# Altium footprint library BGA50P.PcbLib: 2 footprints
Each footprint in its own frame and in the unit in brackets; x right, y up, seen from the top. Pads: shape width x height; smd on the part's side, far side on the other; paste and mask are expansions set on the pad; w line width, h text height; cw(c..) or ccw(c..) is an arc to the next point about the centre after c.
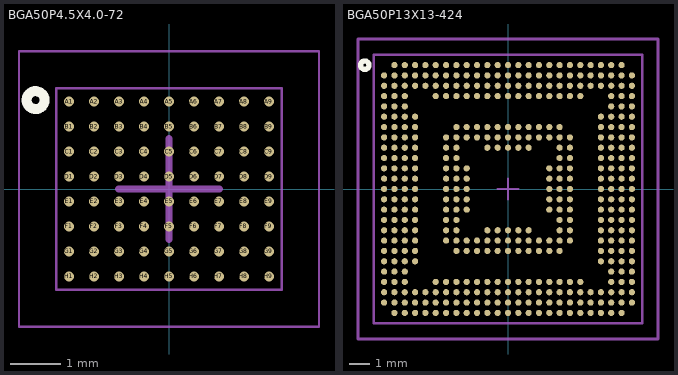
[diagram p0: the footprints below, top view; thin cyan lines are the x and y axes]

## BGA50P4.5X4.0-72 [mm]
pads (72):
  round 0.2 smd: A1(-2,1.75) A2(-1.5,1.75) A3(-1,1.75) A4(-0.5,1.75) A5(0,1.75) A6(0.5,1.75) A7(1,1.75) A8(1.5,1.75) A9(2,1.75) B1(-2,1.25) B2(-1.5,1.25) B3(-1,1.25) B4(-0.5,1.25) B5(0,1.25) B6(0.5,1.25) B7(1,1.25) B8(1.5,1.25) B9(2,1.25) C1(-2,0.75) C2(-1.5,0.75) C3(-1,0.75) C4(-0.5,0.75) C5(0,0.75) C6(0.5,0.75) C7(1,0.75) C8(1.5,0.75) C9(2,0.75) D1(-2,0.25) D2(-1.5,0.25) D3(-1,0.25) D4(-0.5,0.25) D5(0,0.25) D6(0.5,0.25) D7(1,0.25) D8(1.5,0.25) D9(2,0.25) E1(-2,-0.25) E2(-1.5,-0.25) E3(-1,-0.25) E4(-0.5,-0.25) E5(0,-0.25) E6(0.5,-0.25) E7(1,-0.25) E8(1.5,-0.25) E9(2,-0.25) F1(-2,-0.75) F2(-1.5,-0.75) F3(-1,-0.75) F4(-0.5,-0.75) F5(0,-0.75) F6(0.5,-0.75) F7(1,-0.75) F8(1.5,-0.75) F9(2,-0.75) G1(-2,-1.25) G2(-1.5,-1.25) G3(-1,-1.25) G4(-0.5,-1.25) G5(0,-1.25) G6(0.5,-1.25) G7(1,-1.25) G8(1.5,-1.25) G9(2,-1.25) H1(-2,-1.75) H2(-1.5,-1.75) H3(-1,-1.75) H4(-0.5,-1.75) H5(0,-1.75) H6(0.5,-1.75) H7(1,-1.75) H8(1.5,-1.75) H9(2,-1.75)
Top Overlay:
  circle w0.2: c-2.667,1.778 r0.18
Mechanical 13:
  lines w0.05: -2.255,-2.011 2.255,-2.011 2.255,2.011 -2.255,2.011 -2.255,-2.011
Mechanical 15:
  lines w0.05: -3,-2.75 3,-2.75 3,2.75 -3,2.75 -3,-2.75
  lines w0.15: -1,0 1,0 ; 0,-1 0,1
3D body: height 0.71, standoff 0.01, extent -2.255,-2.011 2.255,2.012

## BGA50P13X13-424 [mm]
height 2.05
pads (424):
  round 0.3 smd: A2(-5.5,6) A3(-5,6) A4(-4.5,6) A5(-4,6) A6(-3.5,6) A7(-3,6) A8(-2.5,6) A9(-2,6) A10(-1.5,6) A11(-1,6) A12(-0.5,6) A13(0,6) A14(0.5,6) A15(1,6) A16(1.5,6) A17(2,6) A18(2.5,6) A19(3,6) A20(3.5,6) A21(4,6) A22(4.5,6) A23(5,6) A24(5.5,6) AA1(-6,-4) AA2(-5.5,-4) AA3(-5,-4) AA23(5,-4) AA24(5.5,-4) AA25(6,-4) AB1(-6,-4.5) AB2(-5.5,-4.5) AB3(-5,-4.5) AB6(-3.5,-4.5) AB7(-3,-4.5) AB8(-2.5,-4.5) AB9(-2,-4.5) AB10(-1.5,-4.5) AB11(-1,-4.5) AB12(-0.5,-4.5) AB13(0,-4.5) AB14(0.5,-4.5) AB15(1,-4.5) AB16(1.5,-4.5) AB17(2,-4.5) AB18(2.5,-4.5) AB19(3,-4.5) AB20(3.5,-4.5) AB23(5,-4.5) AB24(5.5,-4.5) AB25(6,-4.5) AC1(-6,-5) AC2(-5.5,-5) AC3(-5,-5) AC4(-4.5,-5) AC5(-4,-5) AC6(-3.5,-5) AC7(-3,-5) AC8(-2.5,-5) AC9(-2,-5) AC10(-1.5,-5) AC11(-1,-5) AC12(-0.5,-5) AC13(0,-5) AC14(0.5,-5) AC15(1,-5) AC16(1.5,-5) AC17(2,-5) AC18(2.5,-5) AC19(3,-5) AC20(3.5,-5) AC21(4,-5) AC22(4.5,-5) AC23(5,-5) AC24(5.5,-5) AC25(6,-5) AD1(-6,-5.5) AD2(-5.5,-5.5) AD3(-5,-5.5) AD4(-4.5,-5.5) AD5(-4,-5.5) AD6(-3.5,-5.5) AD7(-3,-5.5) AD8(-2.5,-5.5) AD9(-2,-5.5) AD10(-1.5,-5.5) AD11(-1,-5.5) AD12(-0.5,-5.5) AD13(0,-5.5) AD14(0.5,-5.5) AD15(1,-5.5) AD16(1.5,-5.5) AD17(2,-5.5) AD18(2.5,-5.5) AD19(3,-5.5) AD20(3.5,-5.5) AD21(4,-5.5) AD22(4.5,-5.5) AD23(5,-5.5) AD24(5.5,-5.5) AD25(6,-5.5) AE2(-5.5,-6) AE3(-5,-6) AE4(-4.5,-6) AE5(-4,-6) AE6(-3.5,-6) AE7(-3,-6) AE8(-2.5,-6) AE9(-2,-6) AE10(-1.5,-6) AE11(-1,-6) AE12(-0.5,-6) AE13(0,-6) AE14(0.5,-6) AE15(1,-6) AE16(1.5,-6) AE17(2,-6) AE18(2.5,-6) AE19(3,-6) AE20(3.5,-6) AE21(4,-6) AE22(4.5,-6) AE23(5,-6) AE24(5.5,-6) B1(-6,5.5) B2(-5.5,5.5) B3(-5,5.5) B4(-4.5,5.5) B5(-4,5.5) B6(-3.5,5.5) B7(-3,5.5) B8(-2.5,5.5) B9(-2,5.5) B10(-1.5,5.5) B11(-1,5.5) B12(-0.5,5.5) B13(0,5.5) B14(0.5,5.5) B15(1,5.5) B16(1.5,5.5) B17(2,5.5) B18(2.5,5.5) B19(3,5.5) B20(3.5,5.5) B21(4,5.5) B22(4.5,5.5) B23(5,5.5) B24(5.5,5.5) B25(6,5.5) C1(-6,5) C2(-5.5,5) C3(-5,5) C4(-4.5,5) C5(-4,5) C6(-3.5,5) C7(-3,5) C8(-2.5,5) C9(-2,5) C10(-1.5,5) C11(-1,5) C12(-0.5,5) C13(0,5) C14(0.5,5) C15(1,5) C16(1.5,5) C17(2,5) C18(2.5,5) C19(3,5) C20(3.5,5) C21(4,5) C22(4.5,5) C23(5,5) C24(5.5,5) C25(6,5) D1(-6,4.5) D2(-5.5,4.5) D3(-5,4.5) D6(-3.5,4.5) D7(-3,4.5) D8(-2.5,4.5) D9(-2,4.5) D10(-1.5,4.5) D11(-1,4.5) D12(-0.5,4.5) D13(0,4.5) D14(0.5,4.5) D15(1,4.5) D16(1.5,4.5) D17(2,4.5) D18(2.5,4.5) D19(3,4.5) D20(3.5,4.5) D23(5,4.5) D24(5.5,4.5) D25(6,4.5) E1(-6,4) E2(-5.5,4) E3(-5,4) E23(5,4) E24(5.5,4) E25(6,4) F1(-6,3.5) F2(-5.5,3.5) F3(-5,3.5) F4(-4.5,3.5) F22(4.5,3.5) F23(5,3.5) F24(5.5,3.5) F25(6,3.5) G1(-6,3) G2(-5.5,3) G3(-5,3) G4(-4.5,3) G8(-2.5,3) G9(-2,3) G10(-1.5,3) G11(-1,3) G12(-0.5,3) G13(0,3) G14(0.5,3) G15(1,3) G16(1.5,3) G17(2,3) G18(2.5,3) G22(4.5,3) G23(5,3) G24(5.5,3) G25(6,3) H1(-6,2.5) H2(-5.5,2.5) H3(-5,2.5) H4(-4.5,2.5) H7(-3,2.5) H8(-2.5,2.5) H9(-2,2.5) H10(-1.5,2.5) H11(-1,2.5) H12(-0.5,2.5) H13(0,2.5) H14(0.5,2.5) H15(1,2.5) H16(1.5,2.5) H17(2,2.5) H18(2.5,2.5) H19(3,2.5) H22(4.5,2.5) H23(5,2.5) H24(5.5,2.5) H25(6,2.5) J1(-6,2) J2(-5.5,2) J3(-5,2) J4(-4.5,2) J7(-3,2) J8(-2.5,2) J11(-1,2) J12(-0.5,2) J13(0,2) J14(0.5,2) J15(1,2) J18(2.5,2) J19(3,2) J22(4.5,2) J23(5,2) J24(5.5,2) J25(6,2) K1(-6,1.5) K2(-5.5,1.5) K3(-5,1.5) K4(-4.5,1.5) K7(-3,1.5) K8(-2.5,1.5) K18(2.5,1.5) K19(3,1.5) K22(4.5,1.5) K23(5,1.5) K24(5.5,1.5) K25(6,1.5) L1(-6,1) L2(-5.5,1) L3(-5,1) L4(-4.5,1) L7(-3,1) L8(-2.5,1) L9(-2,1) L17(2,1) L18(2.5,1) L19(3,1) L22(4.5,1) L23(5,1) L24(5.5,1) L25(6,1) M1(-6,0.5) M2(-5.5,0.5) M3(-5,0.5) M4(-4.5,0.5) M7(-3,0.5) M8(-2.5,0.5) M9(-2,0.5) M17(2,0.5) M18(2.5,0.5) M19(3,0.5) M22(4.5,0.5) M23(5,0.5) M24(5.5,0.5) M25(6,0.5) N1(-6,0) N2(-5.5,0) N3(-5,0) N4(-4.5,0) N7(-3,0) N8(-2.5,0) N9(-2,0) N17(2,0) N18(2.5,0) N19(3,0) N22(4.5,0) N23(5,0) N24(5.5,0) N25(6,0) P1(-6,-0.5) P2(-5.5,-0.5) P3(-5,-0.5) P4(-4.5,-0.5) P7(-3,-0.5) P8(-2.5,-0.5) P9(-2,-0.5) P17(2,-0.5) P18(2.5,-0.5) P19(3,-0.5) P22(4.5,-0.5) P23(5,-0.5) P24(5.5,-0.5) P25(6,-0.5) R1(-6,-1) R2(-5.5,-1) R3(-5,-1) R4(-4.5,-1) R7(-3,-1) R8(-2.5,-1) R9(-2,-1) R17(2,-1) R18(2.5,-1) R19(3,-1) R22(4.5,-1) R23(5,-1) R24(5.5,-1) R25(6,-1) T1(-6,-1.5) T2(-5.5,-1.5) T3(-5,-1.5) T4(-4.5,-1.5) T7(-3,-1.5) T8(-2.5,-1.5) T18(2.5,-1.5) T19(3,-1.5) T22(4.5,-1.5) T23(5,-1.5) T24(5.5,-1.5) T25(6,-1.5) U1(-6,-2) U2(-5.5,-2) U3(-5,-2) U4(-4.5,-2) U7(-3,-2) U8(-2.5,-2) U11(-1,-2) U12(-0.5,-2) U13(0,-2) U14(0.5,-2) U15(1,-2) U18(2.5,-2) U19(3,-2) U22(4.5,-2) U23(5,-2) U24(5.5,-2) U25(6,-2) V1(-6,-2.5) V2(-5.5,-2.5) V3(-5,-2.5) V4(-4.5,-2.5) V7(-3,-2.5) V8(-2.5,-2.5) V9(-2,-2.5) V10(-1.5,-2.5) V11(-1,-2.5) V12(-0.5,-2.5) V13(0,-2.5) V14(0.5,-2.5) V15(1,-2.5) V16(1.5,-2.5) V17(2,-2.5) V18(2.5,-2.5) V19(3,-2.5) V22(4.5,-2.5) V23(5,-2.5) V24(5.5,-2.5) V25(6,-2.5) W1(-6,-3) W2(-5.5,-3) W3(-5,-3) W4(-4.5,-3) W8(-2.5,-3) W9(-2,-3) W10(-1.5,-3) W11(-1,-3) W12(-0.5,-3) W13(0,-3) W14(0.5,-3) W15(1,-3) W16(1.5,-3) W17(2,-3) W18(2.5,-3) W22(4.5,-3) W23(5,-3) W24(5.5,-3) W25(6,-3) Y1(-6,-3.5) Y2(-5.5,-3.5) Y3(-5,-3.5) Y4(-4.5,-3.5) Y22(4.5,-3.5) Y23(5,-3.5) Y24(5.5,-3.5) Y25(6,-3.5)
Top Overlay:
  circle w0.254: c-6.934,5.994 r0.203
Top Solder:
  lines w0.127: -6.502,-6.208 -6.502,-6.502 -6.208,-6.502 ; -6.502,6.208 -6.502,6.502 -6.208,6.502 ; 6.208,-6.502 6.502,-6.502 6.502,-6.208 ; 6.208,6.502 6.502,6.502 6.502,6.208
Mechanical 13:
  lines w0.1: -6.502,-6.502 6.502,-6.502 6.502,6.502 -6.502,6.502 -6.502,-6.502
Mechanical 15:
  lines w0.1: -0.5,0 0.5,0 ; 0,-0.5 0,0.5
  lines w0.127: -7.264,-7.264 -7.264,7.264 7.264,7.264 7.264,-7.264 -7.264,-7.264
3D body: height 0, standoff -1.14, extent -6.502,-6.498 6.498,6.502